# Altium footprint library 61300511121.PcbLib: 1 footprints
Each footprint in its own frame and in the unit in brackets; x right, y up, seen from the top. Pads: shape width x height; smd on the part's side, far side on the other; paste and mask are expansions set on the pad; w line width, h text height; cw(c..) or ccw(c..) is an arc to the next point about the centre after c.
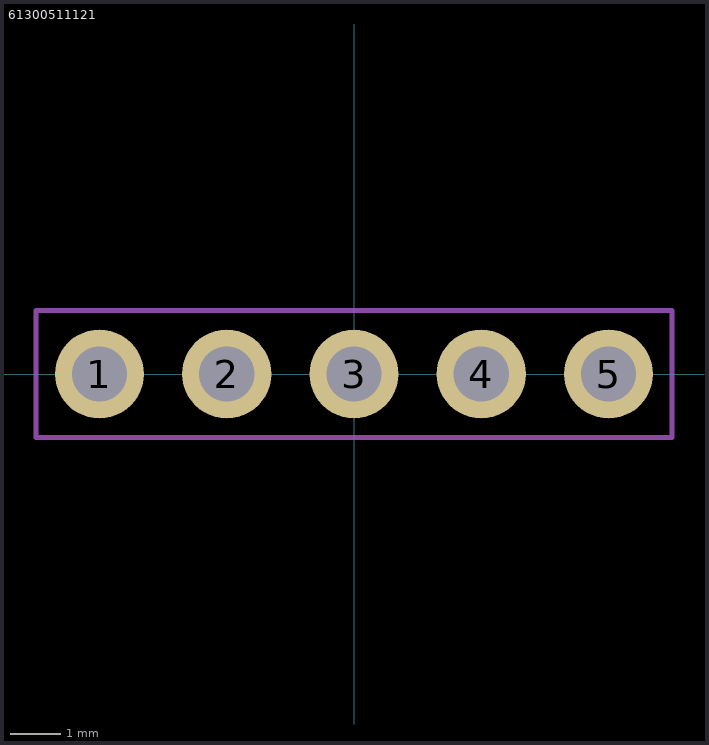
[diagram p0: the footprint, top view; thin cyan lines are the x and y axes]

## 61300511121 [mil]
height 336.22
pads (5):
  round 70 hole 43.31: 1(-200,0) 2(-100,0) 3(0,0) 4(100,0) 5(200,0)
Mechanical 13:
  lines w3.94: -250,-50 -250,50 250,50 250,-50 -250,-50
Mechanical 15:
  lines w3.94: 0,0 0,25 0,-25 0,0 ; 0,0 25,0 0,0 ; 0,0 -25,0 0,0
3D body "61300511121.stp": height 336.22, standoff -118.11, extent -250,-50 250,50